# Altium schematic symbol library Relay-SPDT.Schlib: 1 symbol
Pins are listed as number, name and electrical type; pins without a type are passive.

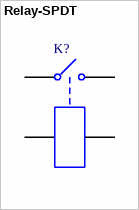
[diagram p0: symbol Relay-SPDT]

## Relay-SPDT
designator K?
Single-Pole Dual-Throw Relay
pins: 1, 2, 4, 5